# EAGLE library part ACCEL_MXR9150MZ (library fablab)
3-axis 3.3V accelerometer
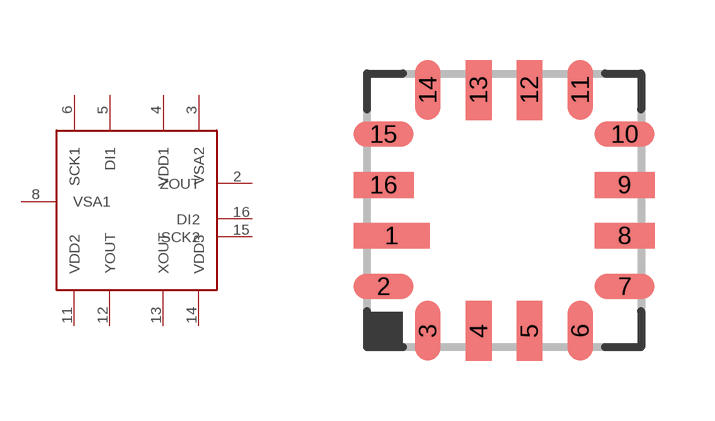
[diagram p11: symbol with the pads of LCC16; footprint LCC16]

Designator prefix -

## ACCEL_MXR9150MZ  [LCC16]
2  ZOUT
3  VSA2
4  VDD1
5  DI1
6  SCK1
8  VSA1
11  VDD2
12  YOUT
13  XOUT
14  VDD3
15  SCK2
16  DI2

## Footprint LCC16 (pad centres in mm)
LCC16 Package Source: http://www.memsic.com/data/products/MXR9500G&M/MXR9500G&M.pdf
smd 1.9 x 0.64: 1 -2.815,-0.635
smd 1.5 x 0.64: 2 -3.015,-1.905; 7 3.015,-1.905; 8 3.015,-0.635; 9 3.015,0.635; 10 3.015,1.905; 15 -3.015,1.905; 16 -3.015,0.635
smd 0.64 x 1.5: 3 -1.905,-3.015; 4 -0.635,-3.015; 5 0.635,-3.015; 6 1.905,-3.015; 11 1.905,3.015; 12 0.635,3.015; 13 -0.635,3.015; 14 -1.905,3.015